# EAGLE library part INA200 (library ti-parts)
High-Side Measurement Current-Shunt Monitor with Comparator and Reference
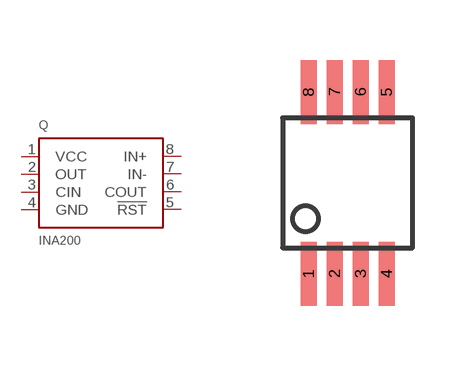
[diagram p1: symbol with the pads of MSOP-8; footprint MSOP-8]

Designator prefix Q

## INA200  [MSOP-8]
1  VCC  pwr
2  OUT  out
3  CIN  in
4  GND  pwr
5  !RST  in
6  COUT  oc
7  IN-  in
8  IN+  in

## Footprint MSOP-8 (pad centres in mm)
8MSOP DGK (S-PDSO-G8), 0.65mm, 8 pins
smd 0.4 x 1.6: 1 -0.975,-2.275; 2 -0.325,-2.275; 3 0.325,-2.275; 4 0.975,-2.275; 5 0.975,2.275; 6 0.325,2.275; 7 -0.325,2.275; 8 -0.975,2.275